# EAGLE library part 61302221821 (library Eagle_BOARD-TO-BOARD_CONNECTORS (rev18b))
WR-PHD 2.54mm Dual Socket Header, 22 Pins =>Code : Con_BTB_SHD_2.54_2_61302221821 <http://katalog.we-online.de/media/images/eican/Con_BTB_SHD_2.54_2_6130xx21821_pf2.jpg> Details see: http://katalog.we-online.de/en/em/613_0xx_218_21 Created 2014-05-29, Karrer Zheng 2014 (C) Würth Elektronik
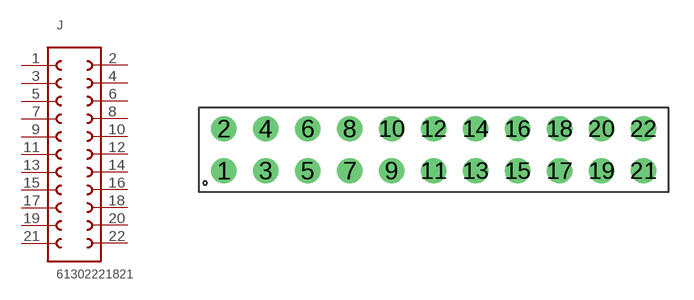
[diagram p114: symbol with the pads of 61302221821; footprint 61302221821]

Designator prefix J

## 61302221821  [61302221821]
1  1  pas
2  22  pas
3  2  pas
4  21  pas
5  3  pas
6  20  pas
7  4  pas
8  19  pas
9  5  pas
10  18  pas
11  6  pas
12  17  pas
13  7  pas
14  16  pas
15  8  pas
16  15  pas
17  9  pas
18  14  pas
19  10  pas
20  13  pas
21  11  pas
22  12  pas

## Footprint 61302221821 (pad centres in mm)
WR-PHD 2.54mm Dual Socket Header, 22 Pins
drill 1.02: 1 -12.7,-1.27; 2 -12.7,1.27; 3 -10.16,-1.27; 4 -10.16,1.27; 5 -7.62,-1.27; 6 -7.62,1.27; 7 -5.08,-1.27; 8 -5.08,1.27; 9 -2.54,-1.27; 10 -2.54,1.27; 11 0,-1.27; 12 0,1.27; 13 2.54,-1.27; 14 2.54,1.27; 15 5.08,-1.27; 16 5.08,1.27; 17 7.62,-1.27; 18 7.62,1.27; 19 10.16,-1.27; 20 10.16,1.27; 21 12.7,-1.27; 22 12.7,1.27